# Altium schematic symbol library Schlib_For_High_Voltage_Sensor.SchLib: 142 symbols (part 1 of 3)
Pins are listed as number, name and electrical type; pins without a type are passive.

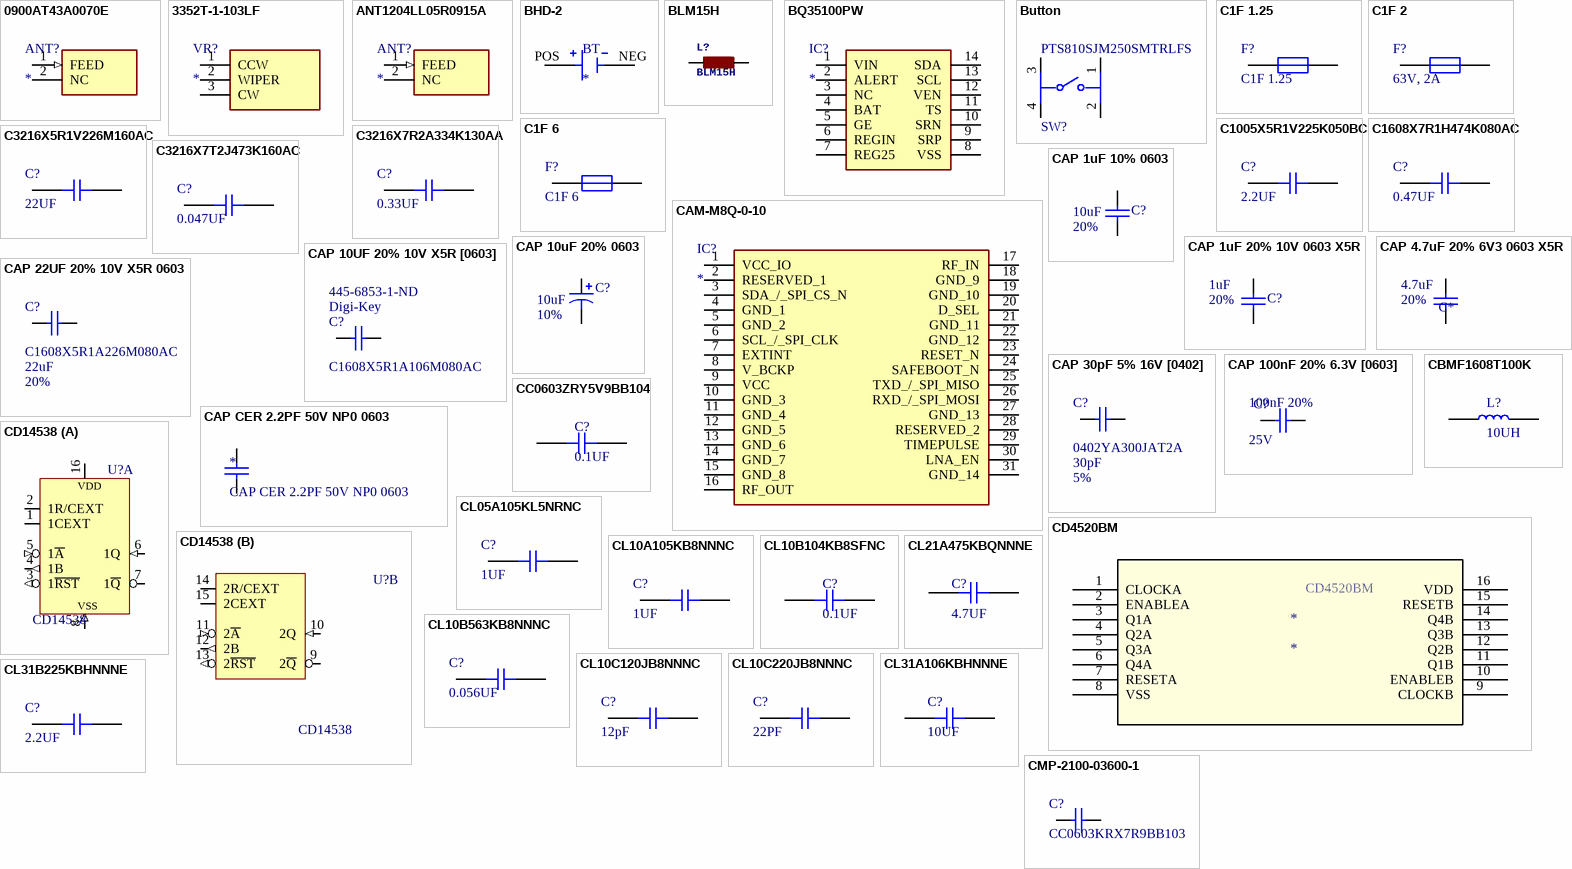
[diagram p0: symbols 0900AT43A0070E to CMP-2100-03600-1]

## 0900AT43A0070E
designator ANT?
Antenna; Manufacturer_Name: JOHANSON TECHNOLOGY; Manufacturer_Part_Number: 0900AT43A0070E; Datasheet Link: https://www.johansontechnology.com/datasheets/0900AT43A0070/0900AT43A0070.pdf; Height: 0.9mm
footprint ANTC7020X90N
pins: 1 FEED (in), 2 NC

## 3352T-1-103LF
designator VR?
Variable Resistor; Manufacturer_Name: Bourns; Manufacturer_Part_Number: 3352T-1-103LF; Datasheet Link: https://www.bourns.com/docs/Product-Datasheets/3352.pdf; Height: 5.33mm; Arrow Part Number: 3352T-1-103LF; Arrow Price/Stock: https://www.arrow.com/en/products/3352t-1-103lf/bourns; Mouser Part Number: 652-3352T-1-103LF; Mouser Price/Stock: https://www.mouser.co.uk/ProductDetail/Bourns/3352T-1-103LF?qs=EYTJzGwugUoW6t2SAeQ12A%3D%3D
footprint 3352T1103LF
pins: 1 CCW, 2 WIPER, 3 CW

## ANT1204LL05R0915A
designator ANT?
Antenna; Manufacturer_Name: YAGEO (PHYCOMP); Manufacturer_Part_Number: ANT1204LL05R0915A; Datasheet Link: http://www.yageo.com/documents/recent/An_Ceramic_915_1204_CHE_0.pdf; Height: 1.8mm; Arrow Part Number: ANT1204LL05R0915A; Arrow Price/Stock: https://www.arrow.com/en/products/ant1204ll05r0915a/yageo; Mouser Part Number: 603-ANT1204LL05R0915; Mouser Price/Stock: https://www.mouser.co.uk/ProductDetail/Yageo/ANT1204LL05R0915A?qs=CqAAFKzD4h%2FQqbyug0IFwg%3D%3D
footprint ANTC12141X180N
pins: 1 FEED (in), 2 NC

## BHD-2
designator BT
BATTERY HOLDER D PC PIN; MF: MPD; MP: BHD-2; Value: *; Package: None; Price: None; Availability: Bad; SnapEDA_Link: https://www.snapeda.com/parts/BHD-2/Memory%20Protection%20Devices/view-part/4219639/?ref=snap; BuyPart: https://www.snapeda.com/parts/BHD-2/Memory%20Protection%20Devices/view-part/4219639/?ref=eda
footprint BAT_BHD-2
pins: NEG, POS

## BLM15H
designator L?
EMIFIL (R) Chip Ferrite Bead for GHz Noise   Source: http://www.murata.com/ Ferrite Bead BLM15H.pdf; GateName_1: G$1; SymbolName_1: L; LibraryName: inductors; DeviceSetName: BLM15H
footprint 0402
pins: 1, 2

## BQ35100PW
designator IC?
Integrated Circuit; Manufacturer_Name: Texas Instruments; Manufacturer_Part_Number: BQ35100PW; Datasheet Link: http://www.ti.com/lit/gpn/bq35100; Height: 1.2mm; Arrow Part Number: BQ35100PW; Arrow Price/Stock: https://www.arrow.com/en/products/bq35100pw/texas-instruments; Mouser Part Number: 595-BQ35100PW; Mouser Price/Stock: https://www.mouser.co.uk/ProductDetail/Texas-Instruments/BQ35100PW?qs=Jwe3UnxISIaIuldqtot6tg%3D%3D
footprint SOP65P640X120-14N
pins: 1 VIN, 2 ALERT, 3 NC, 4 BAT, 5 GE, 6 REGIN, 7 REG25, 8 VSS, 9 SRP, 10 SRN, 11 TS, 12 VEN, 13 SCL, 14 SDA

## Button
designator SW?, comment PTS810SJM250SMTRLFS
SWITCH TACTILE SPST-NO 0.05A 16V; Manufacturer: C&K Components; Throw Configuration: SPST; Contact Resistance: 500mΩ; Electromechanical Life: 150000Cycles; Operating Force: 160gf; Contact Current Rating: 50mA; Temperature: -40°C to +85°C; Device Class L2: Switches; Digikey Description: SWITCH TACTILE SPST-NO 0.05A 16V; Automotive: No; Height: 2.7mm; ComponentLink2Description: Datasheet; Temperature Range Low: -40°C; Device Class L1: Electromechanical; Mouser Description: Switch Tactile N.O. SPST Button J-Bend 0.05A 16VDC 150000Cycles 1.57N SMD T/R; Octopart: https://octopart.com/pts810+sjm+250+smtr+lfs-c%26k+components-29687929; Lead Free: Yes; Voltage Rating Dc: 16V; Temperature Range High: +85°C; Package: PTS810SJM250SMTRLFS; Manufacturer Part Number: PTS810SJM250SMTRLFS; ComponentLink2URL: https://www.ckswitches.com/media/1476/pts810.pdf; Category: Switch; RoHS: TRUE; Device Class L3: Tactile Switches
footprint FP-PTS810SJM250SMTRLFS-MFG
footprint FP-PTS810SJM250SMTRLFS-MFG
pins: 1, 2, 3, 4

## C1F 1.25
designator F?
FUSE 1.25A 125VAC FAST 1206; Manufacturer: Bel Fuse Inc.; Fuse Type: Board Mount (Cartridge Style Excluded); Voltage Rating - AC: 125V; Voltage Rating - DC: 63V; Breaking Capacity @ Rated Voltage: 100A AC, 50A DC; Melting I²t: 0.023; Approvals: cURus; Supplier 1: Digi-Key; Manufacturer Part Number: C1F 1.25; RoHS: RoHS Compliant; Category: Circuit Protection; Stock 1: 14325; Pricing 1: 1=0.42, 5=0.404, 10=0.385, 50=0.3438, 100=0.3201, 250=0.28456, 500=0.23712, 1000=0.22527 (CAD); Packaging: Cut Tape (CT); Part Status: Active; Current Rating: 1.25A; Response Time: Fast; Package / Case: 1206 (3216 Metric); Mounting Type: Surface Mount; Operating Temperature: -55°C ~ 125°C; Color: -; Size / Dimension: 0.126" L x 0.062" W (3.20mm x 1.58mm); ComponentLink1URL: https://belfuse.com/resources/StewartConnector/C1F.pdf; ComponentLink1Description: https://belfuse.com/resources/StewartConnector/C1F.pdf; Supplier Part Number 1: 507-1879-1-ND
footprint RESC1206 (Chip Resistor 1206, 2-Leads, Body 3.20x1.60mm, IPC High Density)
pins: 1, 2

## C1F 2
designator F?, comment 63V, 2A
FUSE 2.0A 125VAC FAST 1206; Manufacturer: Bel Fuse Inc.; Manufacturer Part Number: C1F 2; Fuse Type: Board Mount (Cartridge Style Excluded); Voltage Rating - AC: 125V; Breaking Capacity @ Rated Voltage: 100A AC, 50A DC; Melting I²t: 0.085; Approvals: cURus; Supplier 1: Digi-Key; RoHS: RoHS Compliant; Category: Circuit Protection; Stock 1: 7503; Pricing 1: 1=0.43, 5=0.408, 10=0.39, 50=0.3478, 100=0.3238, 250=0.28788, 500=0.2399, 1000=0.2279 (CAD); Packaging: Cut Tape (CT); Part Status: Active; Current Rating: 2A; Voltage Rating - DC: 63V; Response Time: Fast; Package / Case: 1206 (3216 Metric); Mounting Type: Surface Mount; Operating Temperature: -55°C ~ 125°C; Color: -; Size / Dimension: 0.126" L x 0.062" W (3.20mm x 1.58mm); ComponentLink1URL: http://belfuse.com/pdfs/C1F.pdf; ComponentLink1Description: http://belfuse.com/pdfs/C1F.pdf; Supplier Part Number 1: 507-1881-1-ND
footprint RESC1206 (Chip Resistor 1206, 2-Leads, Body 3.20x1.60mm, IPC High Density)
pins: 1, 2

## C1F 6
designator F?
FUSE 6.0A 125VAC FAST 1206; Manufacturer: Bel Fuse Inc.; Fuse Type: Board Mount (Cartridge Style Excluded); Current Rating: 6A; Voltage Rating - AC: 125V; Voltage Rating - DC: 63V; Breaking Capacity @ Rated Voltage: 100A AC, 50A DC; Melting I²t: 1.404; Approvals: cURus; Supplier 1: Digi-Key; Manufacturer Part Number: C1F 6; RoHS: RoHS Compliant; Category: Circuit Protection; Stock 1: 32858; Pricing 1: 1=0.42, 5=0.404, 10=0.385, 50=0.3438, 100=0.3201, 250=0.28456, 500=0.23712, 1000=0.22527 (CAD); Packaging: Cut Tape (CT); Part Status: Active; Response Time: Fast; Package / Case: 1206 (3216 Metric); Mounting Type: Surface Mount; Operating Temperature: -55°C ~ 125°C; Color: -; Size / Dimension: 0.126" L x 0.062" W (3.20mm x 1.58mm); ComponentLink1URL: https://belfuse.com/resources/StewartConnector/C1F.pdf; ComponentLink1Description: https://belfuse.com/resources/StewartConnector/C1F.pdf; Supplier Part Number 1: 507-1887-1-ND
footprint RESC1206 (Chip Resistor 1206, 2-Leads, Body 3.20x1.60mm, IPC High Density)
pins: 1, 2

## C1005X5R1V225K050BC
designator C?, comment 2.2UF
CAP CER 2.2UF 35V X5R 0402; Manufacturer: TDK Corporation; Manufacturer Part Number: C1005X5R1V225K050BC; Tolerance: ±10%; Supplier 1: Digi-Key; RoHS: RoHS Compliant; Category: Capacitors; Stock 1: 300269; Pricing 1: 1=0.49, 10=0.342, 100=0.2052, 500=0.15388, 1000=0.12994, 2500=0.1231, 5000=0.11626 (CAD); Packaging: Cut Tape (CT); Part Status: Active; Voltage - Rated: 35V; Temperature Coefficient: X5R; Operating Temperature: -55°C ~ 85°C; Features: Low ESL; Ratings: -; Applications: General Purpose; Failure Rate: -; Mounting Type: Surface Mount, MLCC; Package / Case: 0402 (1005 Metric); Size / Dimension: 0.039" L x 0.020" W (1.00mm x 0.50mm); Height - Seated (Max): -; Thickness (Max): 0.022" (0.55mm); Lead Spacing: -; Lead Style: -; ComponentLink1URL: https://product.tdk.com/info/en/catalog/datasheets/mlcc_commercial_general_en.pdf; ComponentLink1Description: https://product.tdk.com/info/en/catalog/datasheets/mlcc_commercial_general_en.pdf; Supplier Part Number 1: 445-9028-1-ND
footprint CAPC0402 (Chip Capacitor 0402, 2-Leads, Body 1.00x0.50mm, IPC High Density)
pins: 1, 2

## C1608X7R1H474K080AC
designator C?, comment 0.47UF
CAP CER 0.47UF 50V X7R 0603; Manufacturer: TDK Corporation; Manufacturer Part Number: C1608X7R1H474K080AC; Capacitance: 0.47µF; Tolerance: ±10%; Supplier 1: Digi-Key; RoHS: RoHS Compliant; Category: Capacitors; Stock 1: 495910; Pricing 1: 1=0.38, 10=0.266, 100=0.1508, 500=0.10652, 1000=0.09318 (CAD); Packaging: Cut Tape (CT); Part Status: Active; Voltage - Rated: 50V; Temperature Coefficient: X7R; Operating Temperature: -55°C ~ 125°C; Features: Low ESL; Ratings: -; Applications: General Purpose; Failure Rate: -; Mounting Type: Surface Mount, MLCC; Package / Case: 0603 (1608 Metric); Size / Dimension: 0.063" L x 0.031" W (1.60mm x 0.80mm); Height - Seated (Max): -; Thickness (Max): 0.037" (0.95mm); Lead Spacing: -; Lead Style: -; ComponentLink1URL: https://product.tdk.com/info/en/catalog/datasheets/mlcc_commercial_general_en.pdf; ComponentLink1Description: https://product.tdk.com/info/en/catalog/datasheets/mlcc_commercial_general_en.pdf; Supplier Part Number 1: 445-5952-1-ND
footprint CAPC0603 (Chip Capacitor 0603, 2-Leads, Body 1.60x0.80mm, IPC High Density)
pins: 1, 2

## C3216X5R1V226M160AC
designator C?, comment 22UF
CAP CER 22UF 35V X5R 1206; Manufacturer: TDK; Manufacturer Part Number: C3216X5R1V226M160AC; Dielectric Material: Ceramic; Tolerance: 20%; Supplier 1: Digi-Key; Stock 1: 855987; Pricing 1: 1=1.11, 10=0.873, 100=0.6546, 500=0.49462, 1000=0.43643 (USD); Mount: Surface Mount; Case/Package: 1206; Weight: 0.000571oz; Case Code (Metric): 3216; Case Code (Imperial): 1206; Min Operating Temperature: -55°C; Max Operating Temperature: 85°C; Capacitance: 22uF; Package Quantity: 2000; Voltage Rating: 35V; Packaging: Tape and Reel; Voltage Rating (DC): 35V; Dielectric: X5R; Termination: SMD/SMT; Composition: Ceramic; Voltage: 35V; Length: 3.2mm; Height: 1.6mm; Width: 0.063inch; Depth: 1.6mm; Thickness: 1.6mm; Radiation Hardening: No; REACH SVHC: No SVHC; Lead Free: Lead Free; ComponentLink1URL: https://datasheet.ciiva.com/23803/1796654-23803046.pdf; ComponentLink1Description: https://datasheet.ciiva.com/23803/1796654-23803046.pdf; ComponentLink2URL: https://datasheet.ciiva.com/22725/1913358-22725591.pdf; ComponentLink2Description: https://datasheet.ciiva.com/22725/1913358-22725591.pdf; ComponentLink3URL: https://datasheet.ciiva.com/22725/1913358-22725592.pdf; ComponentLink3Description: https://datasheet.ciiva.com/22725/1913358-22725592.pdf; ComponentLink4URL: https://datasheet.ciiva.com/24216/c3216x5r1v226m160ac-265035-24216573.pdf; ComponentLink4Description: https://datasheet.ciiva.com/24216/c3216x5r1v226m160ac-265035-24216573.pdf; ComponentLink5URL: https://datasheet.ciiva.com/6259/tdkmlcccaprange-6259231.pdf; ComponentLink5Description: https://datasheet.ciiva.com/6259/tdkmlcccaprange-6259231.pdf; Supplier Part Number 1: 445-8045-1-ND
footprint CAPC1206 (Chip Capacitor 1206, 2-Leads, Body 3.20x1.60mm, IPC High Density)
pins: 1, 2

## C3216X7R2A334K130AA
designator C?, comment 0.33UF
CAP CER 0.33UF 100V X7R 1206; Manufacturer: TDK; Manufacturer Part Number: C3216X7R2A334K130AA; Capacitance: 330nF; Tolerance: 10%; Supplier 1: Digi-Key; Stock 1: 12384; Pricing 1: 1=0.62, 10=0.431, 100=0.2588, 500=0.19406, 1000=0.16388 (USD); Mount: Surface Mount; Case/Package: 1206; Weight: 0.000571oz; Case Code (Metric): 3216; Case Code (Imperial): 1206; Min Operating Temperature: -55°C; Max Operating Temperature: 125°C; Package Quantity: 1; Voltage Rating: 100V; Packaging: Tape and Reel; Voltage Rating (DC): 100V; Dielectric: X7R; Termination: SMD/SMT; Composition: Ceramic; Voltage: 100V; Length: 3.2mm; Height: 1.3mm; Width: 0.063inch; Thickness: 0.057inch; Depth: 1.6mm; REACH SVHC: No SVHC; Lead Free: Lead Free; ComponentLink1URL: https://datasheet.ciiva.com/24217/c3216x7r2a334k130aa-265144-24217268.pdf; ComponentLink1Description: https://datasheet.ciiva.com/24217/c3216x7r2a334k130aa-265144-24217268.pdf; ComponentLink2URL: https://datasheet.ciiva.com/11788/0900766b80fc5cba-11788187.pdf; ComponentLink2Description: https://datasheet.ciiva.com/11788/0900766b80fc5cba-11788187.pdf; Supplier Part Number 1: 445-4464-1-ND
footprint CAPC1206 (Chip Capacitor 1206, 2-Leads, Body 3.20x1.60mm, IPC High Density)
pins: 1, 2

## C3216X7T2J473K160AC
designator C?, comment 0.047UF
CAP CER 0.047UF 630V X7T 1206; Manufacturer: TDK Corporation; Manufacturer Part Number: C3216X7T2J473K160AC; Tolerance: ±10%; Supplier 1: Digi-Key; RoHS: RoHS Compliant; Category: Capacitors; Stock 1: 24407; Pricing 1: 1=0.74, 10=0.51, 100=0.3056, 500=0.22922, 1000=0.19355 (CAD); Packaging: Cut Tape (CT); Part Status: Active; Voltage - Rated: 630V; Temperature Coefficient: X7T; Operating Temperature: -55°C ~ 125°C; Features: -; Ratings: -; Applications: General Purpose; Failure Rate: -; Mounting Type: Surface Mount, MLCC; Package / Case: 1206 (3216 Metric); Size / Dimension: 0.126" L x 0.063" W (3.20mm x 1.60mm); Height - Seated (Max): -; Thickness (Max): 0.075" (1.90mm); Lead Spacing: -; Lead Style: -; ComponentLink1URL: https://product.tdk.com/info/en/catalog/datasheets/mlcc_commercial_midvoltage_en.pdf; ComponentLink1Description: https://product.tdk.com/info/en/catalog/datasheets/mlcc_commercial_midvoltage_en.pdf; Supplier Part Number 1: 445-7763-1-ND
footprint CAPC1206 (Chip Capacitor 1206, 2-Leads, Body 3.20x1.60mm, IPC High Density)
pins: 1, 2

## CAM-M8Q-0-10
designator IC?
Integrated Circuit; Manufacturer_Name: U-Blox; Manufacturer_Part_Number: CAM-M8Q-0-10; Datasheet Link: https://www.u-blox.com/sites/default/files/CAM-M8-FW3_DataSheet_%28UBX-15031574%29.pdf
footprint CAM-M8Q
pins: 1 VCC_IO, 2 RESERVED_1, 3 SDA_/_SPI_CS_N, 4 GND_1, 5 GND_2, 6 SCL_/_SPI_CLK, 7 EXTINT, 8 V_BCKP, 9 VCC, 10 GND_3, 11 GND_4, 12 GND_5, 13 GND_6, 14 GND_7, 15 GND_8, 16 RF_OUT, 17 RF_IN, 18 GND_9, 19 GND_10, 20 D_SEL, 21 GND_11, 22 GND_12, 23 RESET_N, 24 SAFEBOOT_N, 25 TXD_/_SPI_MISO, 26 RXD_/_SPI_MOSI, 27 GND_13, 28 RESERVED_2, 29 TIMEPULSE, 30 LNA_EN, 31 GND_14

## CAP 1uF 10% 0603
designator C?, comment value 10uF  Tolerance: 20%  (hidden comment: CAP 10uF 20% 10V 0603 X5R)
Supplier 1: Newark; Supplier Part Number 1: 87R3602
footprint CAPC0603 (Chip Capacitor 0603, 2-Leads, Body 1.60x0.80mm, IPC High Density)
pins: 1, 2

## CAP 1uF 20% 10V 0603 X5R
designator C?, comment value 1uF  Tolerance: 20%  (hidden comment: CAP 1uF 20% 16V 0603 X7R)
Supplier 1: Digi-Key; Supplier Part Number 1: 445-5131-1-ND
footprint CAPC0603 (Chip Capacitor 0603, 2-Leads, Body 1.60x0.80mm, IPC High Density)
pins: 1, 2

## CAP 4.7uF 20% 6V3 0603 X5R
designator C*  value 4.7uF  Tolerance: 20%  (hidden comment: CAP 4.7uF 20% 6V3 0603 X5R)
Supplier 1: Digi-Key; Supplier Part Number 1: 399-7936-1-ND
footprint CAPC0603 (Chip Capacitor 0603, 2-Leads, Body 1.60x0.80mm, IPC High Density)
pins: 1, 2

## CAP 10UF 20% 10V X5R [0603]
designator C?, comment Supplier 1: Digi-Key  Supplier Part Number 1: 445-6853-1-ND  PN: C1608X5R1A106M080AC  (hidden comment: CAP 10UF 20% 10V X5R 0603)
Datasheet: https://product.tdk.com/info/en/catalog/datasheets/mlcc_commercial_general_en.pdf?ref_disty=digikey
footprint CAP 0603
footprint CAPC0603 (Chip Capacitor 0603, 2-Leads, Body 1.60x0.80mm, IPC High Density)
pins: 1, 2

## CAP 10uF 20% 0603
designator C?, comment value 10uF  Tolerance: 10%  (hidden comment: CAP 10uF 10% 10V TAN)
Supplier 1: Digi-Key; Supplier Part Number 1: 478-1654-1-ND
footprint CAP POL 1206
footprint CAPC0603 (Chip Capacitor 0603, 2-Leads, Body 1.60x0.80mm, IPC High Density)
pins: 1, 2

## CAP 22UF 20% 10V X5R 0603
designator C?, comment value 22uF  PN: C1608X5R1A226M080AC  Tolerance: 20%  (hidden comment: Cap)
CAP 22UF 20% 10V X5R 0603; Datasheet: https://product.tdk.com/info/en/catalog/datasheets/mlcc_commercial_general_en.pdf?ref_disty=digikey; Supplier 1: Digi-Key; Supplier Part Number 1: 445-9077-1-ND
footprint CAP 0603
footprint CAPC0603 (Chip Capacitor 0603, 2-Leads, Body 1.60x0.80mm, IPC High Density)
pins: 1, 2

## CAP 30pF 5% 16V [0402]
designator C?  value 30pF  PN: 0402YA300JAT2A  Tolerance: 5%  (hidden comment: CAP 30pF 5% 16V [0402])
Datasheet: https://www.mouser.ca/datasheet/2/40/C0GNP0-Dielectric-951274.pdf; Supplier 1: Mouser; Supplier Part Number 1: 581-0402YA300JAT2A
footprint CAP [0402]
footprint CAPC0402 (Chip Capacitor 0402, 2-Leads, Body 1.00x0.50mm, IPC High Density)
pins: 1, 2

## CAP 100nF 20% 6.3V [0603]
designator C?, comment value 100nF  Tolerance: 20%  Voltage: 25V  (hidden comment: CAP 100nF 20% 10V [0603] X7R)
Supplier 1: Digi-Key; Supplier Part Number 1: 478-5049-1-ND; Temperature Coeff.: X7R
footprint CAP 0603
footprint CAPC0603 (Chip Capacitor 0603, 2-Leads, Body 1.60x0.80mm, IPC High Density)
pins: 1, 2

## CAP CER 2.2PF 50V NP0 0603
designator *
footprint CAPC0603 (Chip Capacitor 0603, 2-Leads, Body 1.60x0.80mm, IPC High Density)
pins: 1, 2

## CBMF1608T100K
designator L?, comment 10UH
FIXED IND 10UH 380MA 468 MOHM; Manufacturer: Taiyo Yuden; Manufacturer Part Number: CBMF1608T100K; Type: Wirewound; Material - Core: Ferrite; Tolerance: ±10%; Shielding: Unshielded; DC Resistance (DCR): 468 mOhm Max; Supplier 1: Digi-Key; RoHS: RoHS Compliant; Category: Inductors, Coils, Chokes; Stock 1: 194311; Pricing 1: 1=0.35, 10=0.305, 100=0.2094, 500=0.17892, 1000=0.13704 (CAD); Packaging: Cut Tape (CT); Part Status: Active; Q @ Freq: -; Ratings: -; Operating Temperature: -40°C ~ 105°C; Mounting Type: Surface Mount; Package / Case: 0603 (1608 Metric); Supplier Device Package: 0603 (1608 Metric); Size / Dimension: 0.063" L x 0.032" W (1.60mm x 0.80mm); Height - Seated (Max): 0.039" (1.00mm); ComponentLink1URL: http://ds.yuden.co.jp/TYCOMPAS/ut/detail.do?productNo=CBMF1608T100K&fileName=CBMF1608T100K_SS&mode=specSheetDownload; ComponentLink1Description: http://ds.yuden.co.jp/TYCOMPAS/ut/detail.do?productNo=CBMF1608T100K&fileName=CBMF1608T100K_SS&mode=specSheetDownload; Supplier Part Number 1: 587-1720-1-ND
footprint RESC0603 (Chip Resistor 0603, 2-Leads, Body 1.60x0.82mm, IPC High Density)
pins: 1, 2

## CC0603ZRY5V9BB104
designator C?, comment 0.1UF
CAP CER 0.1UF 50V Y5V 0603; Manufacturer 1: Yageo; Manufacturer Part Number 1: CC0603ZRY5V9BB104; Capacitance: 100nF; Tolerance: 80%; Supplier 1: Digi-Key; Supplier Part Number 1: 311-1343-1-ND; Description 1: CAP CER 0.1UF 50V Y5V 0603; Stock 1: 40000; Pricing 1: 1=0.1, 10=0.062, 100=0.0275, 500=0.01962, 1000=0.01541 (USD); Mount: Surface Mount; Case/Package: 0603; Number of Pins: 2; Case Code (Metric): 1608; Case Code (Imperial): 0603; Min Operating Temperature: -30°C; Max Operating Temperature: 85°C; Voltage Rating: 50V; Package Quantity: 1; Packaging: Tape and Reel; Voltage Rating (DC): 50V; Dielectric: Y5V; Termination: SMD/SMT; Composition: Ceramic; Voltage: 50V; Length: 1.6mm; Height: 0.8mm; Width: 0.031inch; Thickness: 0.035inch; Depth: 0.8mm; Radiation Hardening: No; REACH SVHC: No SVHC; Lead Free: Lead Free; Halogen Free: Halogen Free; ComponentLink1URL: https://datasheet.ciiva.com/144/mlccorderingcode-144025.pdf; ComponentLink1Description: https://datasheet.ciiva.com/144/mlccorderingcode-144025.pdf; ComponentLink2URL: https://datasheet.ciiva.com/144/mlccorderingcode-144026.pdf; ComponentLink2Description: https://datasheet.ciiva.com/144/mlccorderingcode-144026.pdf; ComponentLink3URL: https://datasheet.ciiva.com/144/mlccorderingcode-144027.pdf; ComponentLink3Description: https://datasheet.ciiva.com/144/mlccorderingcode-144027.pdf; ComponentLink4URL: https://datasheet.ciiva.com/17434/upy-gphc-y5v-6-3v-to-50v-5-17434523.pdf; ComponentLink4Description: https://datasheet.ciiva.com/17434/upy-gphc-y5v-6-3v-to-50v-5-17434523.pdf; ComponentLink5URL: https://datasheet.ciiva.com/26829/getdatasheetpartid-403611-26829467.pdf; ComponentLink5Description: https://datasheet.ciiva.com/26829/getdatasheetpartid-403611-26829467.pdf; ComponentLink6URL: https://datasheet.ciiva.com/5427/upy-gphc-y5v-6-3v-to-50v-5-5427420.pdf; ComponentLink6Description: https://datasheet.ciiva.com/5427/upy-gphc-y5v-6-3v-to-50v-5-5427420.pdf; ComponentLink7URL: https://datasheet.ciiva.com/11786/0900766b8079c870-11786029.pdf; ComponentLink7Description: https://datasheet.ciiva.com/11786/0900766b8079c870-11786029.pdf; ComponentLink8URL: https://datasheet.ciiva.com/28450/1132289-28450702.pdf; ComponentLink8Description: https://datasheet.ciiva.com/28450/1132289-28450702.pdf
footprint CAPC0603 (Chip Capacitor 0603, 2-Leads, Body 1.60x0.80mm, IPC High Density)
pins: 1, 2

## CD4520BM
designator *  Manufacturer Part Number: CD4520BM
Counter ICs CMOS Dual Binary Up- Counter; Manufacturer: Texas Instruments; Number of Elements: 2; Direction: Up,Unidirectional; Number of Bits: 4; Min Supply Voltage: 3V; Max Supply Voltage: 18V; Propagation Delay: 650ns; Reset: Asynchronous; Frequency: 8MHz; Quiescent Current: 100uA; High Level Output Current: -10mA; Low Level Output Current: 50mA; Power Dissipation: 740mW; Number of Timers/Counters: 1; Operating Supply Current: 50uA; Output Current: 100mA; Max Frequency: 3MHz; Sync/Async: Synchronous; Supplier 1: Digi-Key; Stock 1: 77; Pricing 1: 1=0.56000, 10=0.47600, 25=0.44440, 100=0.35560, 250=0.33020, 500=0.27940, 1000=0.21590, 2500=0.19685, 5000=0.18415 (USD); RoHS: Yes; Mount: Surface Mount; Case/Package: SOIC; Number of Pins: 16; Weight: 0.004998oz; Contact Plating: Gold; Min Operating Temperature: -55°C; Max Operating Temperature: 125°C; Logic Function: Counter; Packaging: Rail/Tube; Number of Bits per Element: 4; Package Quantity: 40; Turn-On Delay Time: 650ns; Length: 10mm; Height: 1.5mm; Width: 4mm; Radiation Hardening: No; Lead Free: Lead Free; REACH SVHC: No SVHC; ComponentLink1URL: https://datasheet.ciiva.com/15093/getdatasheetpartid-293403-15093688.pdf?src-supplier=Verical; ComponentLink1Description: https://datasheet.ciiva.com/15093/getdatasheetpartid-293403-15093688.pdf?src-supplier=Verical; ComponentLink2URL: https://datasheet.ciiva.com/1506/1862404-1506704.pdf?src-supplier=Element14; ComponentLink2Description: https://datasheet.ciiva.com/1506/1862404-1506704.pdf?src-supplier=Element14; ComponentLink3URL: https://datasheet.ciiva.com/6623/cd4520b-6623849.pdf?src-supplier=Digi-Key; ComponentLink3Description: https://datasheet.ciiva.com/6623/cd4520b-6623849.pdf?src-supplier=Digi-Key; ComponentLink4URL: https://datasheet.ciiva.com/14295/cd4520b-mil-14295930.pdf?src-supplier=Avnet; ComponentLink4Description: https://datasheet.ciiva.com/14295/cd4520b-mil-14295930.pdf?src-supplier=Avnet; ComponentLink5URL: https://datasheet.ciiva.com/41455/001015562-da-01-en-ic-dual-bin-up-coun-cd4520bm-soic-16-tid-41455477.pdf?src-supplier=Conrad; ComponentLink5Description: https://datasheet.ciiva.com/41455/001015562-da-01-en-ic-dual-bin-up-coun-cd4520bm-soic-16-tid-41455477.pdf?src-supplier=Conrad; Stock 2: 41334; Pricing 2: 1=1.08000, 10=0.96200, 25=0.91280, 100=0.74980, 250=0.70092, 500=0.61940, 1000=0.48900 (USD); Max Power Dissipation: 740mW; ComponentLink6URL: https://datasheet.ciiva.com/46451/903251-46451574.pdf?src-supplier=Jameco; ComponentLink6Description: https://datasheet.ciiva.com/46451/903251-46451574.pdf?src-supplier=Jameco; ComponentLink7URL: https://datasheet.ciiva.com/49050/getdatasheetpartid-627733-49050182.pdf?src-supplier=Verical; ComponentLink7Description: https://datasheet.ciiva.com/49050/getdatasheetpartid-627733-49050182.pdf?src-supplier=Verical; ComponentLink8URL: https://datasheet.ciiva.com/46384/1888913-46384604.pdf?src-supplier=Element14; ComponentLink8Description: https://datasheet.ciiva.com/46384/1888913-46384604.pdf?src-supplier=Element14; ComponentLink9URL: https://datasheet.ciiva.com/49046/1902741-49046076.pdf?src-supplier=Element14; ComponentLink9Description: https://datasheet.ciiva.com/49046/1902741-49046076.pdf?src-supplier=Element14; ComponentLink10URL: https://datasheet.ciiva.com/46382/1882663-46382141.pdf?src-supplier=Element14; ComponentLink10Description: https://datasheet.ciiva.com/46382/1882663-46382141.pdf?src-supplier=Element14; Supplier Part Number 1: 296-32927-5-ND; Supplier 2: Digi-Key; Supplier Part Number 2: LMC555CMX/NOPBDKR-ND
footprint SOIC127P600X175-16N
pins: 1 CLOCKA, 2 ENABLEA, 3 Q1A, 4 Q2A, 5 Q3A, 6 Q4A, 7 RESETA, 8 VSS (power), 9 CLOCKB, 10 ENABLEB, 11 Q1B, 12 Q2B, 13 Q3B, 14 Q4B, 15 RESETB, 16 VDD (power)

## CD14538
designator U?
CD14538 DUAL PRECISION MONOSTABLE MULTIVIBRATOR; Part Field 1: DigiKey; Part Field 2: 1727-3553-ND
footprint SO16
footprint D16
part A pins: 1 1CEXT, 2 1R/CEXT, 3 1~{RST} (out), 4 1B (out), 5 1~{A} (in), 6 1Q (in), 7 1~{Q} (io), 8 VSS (in), 16 VDD (power)
part B pins: 9 2~{Q} (io), 10 2Q (in), 11 2~{A} (in), 12 2B (out), 13 2~{RST} (out), 14 2R/CEXT, 15 2CEXT

## CL05A105KL5NRNC
designator C?, comment 1UF
CAP CER 1UF 35V X5R 0402; Manufacturer: Samsung Electro-Mechanics America, Inc.; Manufacturer Part Number: CL05A105KL5NRNC; Tolerance: ±10%; Supplier 1: Digi-Key; RoHS: RoHS Compliant; Category: Capacitors; Stock 1: 19137; Pricing 1: 1=0.38, 10=0.255, 100=0.1292, 500=0.08844, 1000=0.07824, 2500=0.07483, 5000=0.06803 (CAD); Packaging: Cut Tape (CT); Part Status: Active; Voltage - Rated: 35V; Temperature Coefficient: X5R; Operating Temperature: -55°C ~ 85°C; Features: -; Ratings: -; Applications: General Purpose; Mounting Type: Surface Mount, MLCC; Package / Case: 0402 (1005 Metric); Size / Dimension: 0.039" L x 0.020" W (1.00mm x 0.50mm); Height - Seated (Max): -; Thickness (Max): 0.022" (0.55mm); Lead Spacing: -; Lead Style: -; ComponentLink1URL: http://www.samsungsem.com/kr/support/library/product-catalog/mlcc.jsp; ComponentLink1Description: http://www.samsungsem.com/kr/support/library/product-catalog/mlcc.jsp; Supplier Part Number 1: 1276-6796-1-ND
footprint CAPC0402 (Chip Capacitor 0402, 2-Leads, Body 1.00x0.50mm, IPC High Density)
pins: 1, 2

## CL10A105KB8NNNC
designator C?, comment 1UF
CAP CER 1UF 50V X5R 0603; Manufacturer: Samsung Electro-Mechanics America, Inc.; Manufacturer Part Number: CL10A105KB8NNNC; Capacitance: 1µF; Tolerance: ±10%; Supplier 1: Digi-Key; RoHS: RoHS Compliant; Category: Capacitors; Stock 1: 413709; Pricing 1: 1=0.22, 10=0.155, 100=0.0729, 500=0.05118, 1000=0.04237 (CAD); Packaging: Cut Tape (CT); Part Status: Active; Voltage - Rated: 50V; Temperature Coefficient: X5R; Operating Temperature: -55°C ~ 85°C; Features: -; Ratings: -; Applications: General Purpose; Mounting Type: Surface Mount, MLCC; Package / Case: 0603 (1608 Metric); Size / Dimension: 0.063" L x 0.031" W (1.60mm x 0.80mm); Height - Seated (Max): -; Thickness (Max): 0.035" (0.90mm); Lead Spacing: -; Lead Style: -; ComponentLink1URL: http://www.samsungsem.com/kr/support/product-search/mlcc/CL10A105KB8NNNC.jsp; ComponentLink1Description: http://www.samsungsem.com/kr/support/product-search/mlcc/CL10A105KB8NNNC.jsp; Supplier Part Number 1: 1276-1860-1-ND
footprint CAPC0603 (Chip Capacitor 0603, 2-Leads, Body 1.60x0.80mm, IPC High Density)
pins: 1, 2

## CL10B104KB8SFNC
designator C?, comment 0.1UF
CAP CER 0.1UF 50V X7R 0603; Manufacturer: Samsung Electro-Mechanics America, Inc.; Manufacturer Part Number: CL10B104KB8SFNC; Capacitance: 0.1µF; Tolerance: ±10%; Supplier 1: Digi-Key; RoHS: RoHS Compliant; Category: Capacitors; Stock 1: 2171366; Pricing 1: 1=0.14, 10=0.036, 25=0.026, 50=0.0196, 100=0.016, 250=0.0134, 500=0.01142, 1000=0.00897 (CAD); Packaging: Cut Tape (CT); Part Status: Active; Voltage - Rated: 50V; Temperature Coefficient: X7R; Operating Temperature: -55°C ~ 125°C; Features: Soft Termination; Ratings: -; Applications: Boardflex Sensitive; Mounting Type: Surface Mount, MLCC; Package / Case: 0603 (1608 Metric); Size / Dimension: 0.063" L x 0.031" W (1.60mm x 0.80mm); Height - Seated (Max): -; Thickness (Max): 0.035" (0.90mm); Lead Spacing: -; Lead Style: -; ComponentLink1URL: http://www.samsungsem.com/kr/support/product-search/mlcc/CL10B104KB8SFNC.jsp; ComponentLink1Description: http://www.samsungsem.com/kr/support/product-search/mlcc/CL10B104KB8SFNC.jsp; Supplier Part Number 1: 1276-1936-1-ND
footprint CAPC0603 (Chip Capacitor 0603, 2-Leads, Body 1.60x0.80mm, IPC High Density)
pins: 1, 2

## CL10B563KB8NNNC
designator C?, comment 0.056UF
CAP CER 0.056UF 50V X7R 0603; Manufacturer: Samsung Electro-Mechanics America, Inc.; Manufacturer Part Number: CL10B563KB8NNNC; Capacitance: 0.056µF; Tolerance: ±10%; Supplier 1: Digi-Key; RoHS: RoHS Compliant; Category: Capacitors; Stock 1: 5733; Pricing 1: 1=0.16, 10=0.115, 100=0.0538, 500=0.03772, 1000=0.03124 (CAD); Packaging: Cut Tape (CT); Part Status: Active; Voltage - Rated: 50V; Temperature Coefficient: X7R; Operating Temperature: -55°C ~ 125°C; Features: -; Ratings: -; Applications: General Purpose; Mounting Type: Surface Mount, MLCC; Package / Case: 0603 (1608 Metric); Size / Dimension: 0.063" L x 0.031" W (1.60mm x 0.80mm); Height - Seated (Max): -; Thickness (Max): 0.035" (0.90mm); Lead Spacing: -; Lead Style: -; ComponentLink1URL: http://media.digikey.com/pdf/Data%20Sheets/Samsung%20PDFs/CL_Series_MLCC_ds.pdf; ComponentLink1Description: http://media.digikey.com/pdf/Data%20Sheets/Samsung%20PDFs/CL_Series_MLCC_ds.pdf; Supplier Part Number 1: 1276-2096-1-ND
footprint CAPC0603 (Chip Capacitor 0603, 2-Leads, Body 1.60x0.80mm, IPC High Density)
pins: 1, 2

## CL10C120JB8NNNC
designator C?, comment 12pF
Cap Ceramic 12pF 50V C0G 5% SMD 0603 125C Paper T/R; Manufacturer: Samsung; Manufacturer Part Number: CL10C120JB8NNNC; Temperature Coefficient: 300ppm/°C; Supplier 1: Digi-Key; Stock 1: 101308; Pricing 1: 1=0.1, 10=0.032, 100=0.0143, 500=0.0102, 1000=0.008 (USD); Mount: Surface Mount; Case/Package: 0603; Case Code (Metric): 1608; Case Code (Imperial): 0603; Material: Ceramic; Contact Plating: Tin; Min Operating Temperature: -55°C; Max Operating Temperature: 125°C; Tolerance: 5%; Capacitance: 12pF; Dielectric: C0G; Voltage: 50V; Voltage Rating (DC): 50V; Voltage Rating: 50V; Package Quantity: 1; Packaging: Tape and Reel; Length: 1.6mm; Height: 0.8mm; Depth: 0.8mm; Width: 0.031inch; Thickness: 0.035inch; Radiation Hardening: No; Lead Free: Lead Free; ComponentLink1URL: https://datasheet.ciiva.com/25803/cl10c120jb8nnnc-25803312.pdf; ComponentLink1Description: https://datasheet.ciiva.com/25803/cl10c120jb8nnnc-25803312.pdf; ComponentLink2URL: https://datasheet.ciiva.com/26838/getdatasheetpartid-640658-26838491.pdf; ComponentLink2Description: https://datasheet.ciiva.com/26838/getdatasheetpartid-640658-26838491.pdf; ComponentLink3URL: https://datasheet.ciiva.com/29198/457317-da-01-en-vs-kondensator-0603-29198780.pdf; ComponentLink3Description: https://datasheet.ciiva.com/29198/457317-da-01-en-vs-kondensator-0603-29198780.pdf; Supplier Part Number 1: 1276-1254-6-ND
footprint CAPC0603 (Chip Capacitor 0603, 2-Leads, Body 1.60x0.80mm, IPC High Density)
pins: 1, 2

## CL10C220JB8NNNC
designator C?, comment 22PF
CAP CER 22PF 50V C0G/NP0 0603; Manufacturer: Samsung Electro-Mechanics America, Inc.; Manufacturer Part Number: CL10C220JB8NNNC; Tolerance: ±5%; Temperature Coefficient: C0G, NP0; Supplier 1: Digi-Key; RoHS: RoHS Compliant; Category: Capacitors; Stock 1: 111701; Pricing 1: 1=0.15, 10=0.044, 100=0.0193, 500=0.01378, 1000=0.01081 (CAD); Packaging: Cut Tape (CT); Part Status: Active; Capacitance: 22pF; Voltage - Rated: 50V; Operating Temperature: -55°C ~ 125°C; Features: -; Ratings: -; Applications: General Purpose; Mounting Type: Surface Mount, MLCC; Package / Case: 0603 (1608 Metric); Size / Dimension: 0.063" L x 0.031" W (1.60mm x 0.80mm); Height - Seated (Max): -; Thickness (Max): 0.035" (0.90mm); Lead Spacing: -; Lead Style: -; ComponentLink1URL: http://media.digikey.com/pdf/Data%20Sheets/Samsung%20PDFs/CL_Series_MLCC_ds.pdf; ComponentLink1Description: http://media.digikey.com/pdf/Data%20Sheets/Samsung%20PDFs/CL_Series_MLCC_ds.pdf; Supplier Part Number 1: 1276-1023-1-ND
footprint CAPC0603 (Chip Capacitor 0603, 2-Leads, Body 1.60x0.80mm, IPC High Density)
pins: 1, 2

## CL21A475KBQNNNE
designator C?, comment 4.7UF
Cap Ceramic 4.7uF 50V X5R 10% SMD 0805 85C Embossed T/R; Manufacturer: Samsung; Manufacturer Part Number: CL21A475KBQNNNE; Supplier 1: Digi-Key; Stock 1: 359698; Pricing 1: 1=0.41, 10=0.284, 100=0.1706, 500=0.12792, 1000=0.10803 (USD); Mount: Surface Mount; Case/Package: 0805; Case Code (Metric): 2012; Case Code (Imperial): 0805; Min Operating Temperature: -55°C; Max Operating Temperature: 85°C; Tolerance: 10%; Packaging: Tape and Reel; Package Quantity: 1; Capacitance: 4.7uF; Voltage Rating: 50V; Dielectric: X5R; Length: 2mm; Width: 0.049inch; Thickness: 0.055inch; Depth: 1.25mm; Radiation Hardening: No; ComponentLink1URL: https://datasheet.ciiva.com/25797/cl21a475kbqnnne-25797730.pdf; ComponentLink1Description: https://datasheet.ciiva.com/25797/cl21a475kbqnnne-25797730.pdf; ComponentLink2URL: https://datasheet.ciiva.com/26838/getdatasheetpartid-470982-26838620.pdf; ComponentLink2Description: https://datasheet.ciiva.com/26838/getdatasheetpartid-470982-26838620.pdf; ComponentLink3URL: https://datasheet.ciiva.com/16428/cl21a475kbqnnne-16428877.pdf; ComponentLink3Description: https://datasheet.ciiva.com/16428/cl21a475kbqnnne-16428877.pdf; Supplier Part Number 1: 1276-1248-1-ND
footprint CAPC0805 (Chip Capacitor 0805, 2-Leads, Body 2.00x1.25mm, IPC High Density)
pins: 1, 2

## CL31A106KBHNNNE
designator C?, comment 10UF
CAP CER 10UF 50V X5R 1206; Manufacturer: Samsung Electro-Mechanics America, Inc.; Manufacturer Part Number: CL31A106KBHNNNE; Capacitance: 10µF; Tolerance: ±10%; Supplier 1: Digi-Key; RoHS: RoHS Compliant; Category: Capacitors; Stock 1: 185663; Pricing 1: 1=0.82, 10=0.577, 25=0.4916, 50=0.4356, 100=0.3795, 250=0.32328, 500=0.28114, 1000=0.23895 (CAD); Packaging: Cut Tape (CT); Part Status: Active; Voltage - Rated: 50V; Temperature Coefficient: X5R; Operating Temperature: -55°C ~ 85°C; Features: -; Ratings: -; Applications: General Purpose; Mounting Type: Surface Mount, MLCC; Package / Case: 1206 (3216 Metric); Size / Dimension: 0.126" L x 0.063" W (3.20mm x 1.60mm); Height - Seated (Max): -; Thickness (Max): 0.071" (1.80mm); Lead Spacing: -; Lead Style: -; ComponentLink1URL: http://www.samsungsem.com/kr/support/product-search/mlcc/CL31A106KBHNNNE.jsp; ComponentLink1Description: http://www.samsungsem.com/kr/support/product-search/mlcc/CL31A106KBHNNNE.jsp; Supplier Part Number 1: 1276-2876-1-ND
footprint CAPC1206 (Chip Capacitor 1206, 2-Leads, Body 3.20x1.60mm, IPC High Density)
pins: 1, 2

## CL31B225KBHNNNE
designator C?, comment 2.2UF
CAP CER 2.2UF 50V X7R 1206; Manufacturer: Samsung Electro-Mechanics America, Inc.; Manufacturer Part Number: CL31B225KBHNNNE; Capacitance: 2.2µF; Tolerance: ±10%; Supplier 1: Digi-Key; RoHS: RoHS Compliant; Category: Capacitors; Stock 1: 137467; Pricing 1: 1=0.36, 10=0.251, 100=0.1276, 500=0.08726, 1000=0.0772 (CAD); Packaging: Cut Tape (CT); Part Status: Active; Voltage - Rated: 50V; Temperature Coefficient: X7R; Operating Temperature: -55°C ~ 125°C; Features: -; Ratings: -; Applications: General Purpose; Mounting Type: Surface Mount, MLCC; Package / Case: 1206 (3216 Metric); Size / Dimension: 0.126" L x 0.063" W (3.20mm x 1.60mm); Height - Seated (Max): -; Thickness (Max): 0.071" (1.80mm); Lead Spacing: -; Lead Style: -; ComponentLink1URL: http://media.digikey.com/pdf/Data%20Sheets/Samsung%20PDFs/CL_Series_MLCC_ds.pdf; ComponentLink1Description: http://media.digikey.com/pdf/Data%20Sheets/Samsung%20PDFs/CL_Series_MLCC_ds.pdf; Supplier Part Number 1: 1276-1291-1-ND
footprint CAPC1206 (Chip Capacitor 1206, 2-Leads, Body 3.20x1.60mm, IPC High Density)
pins: 1, 2

## CMP-2100-03600-1
designator C?, comment CC0603KRX7R9BB103
Chip Capacitor, 10 nF, +/- 10%, 50 V, -55 to 125 degC, 0603 (1608 Metric), RoHS, Tape and Reel; Manufacturer: Yageo; Insulation Resistance: 100GR; Dielectric: X7R; Voltage Rating (DC): 50V; Capacitance: 10nF; Material: Ceramic; Lead Free: LeadFree; Case/Package: 0603; Datasheet Version: Rev. 15, 10/2016; Composition: Ceramic; Radiation Hardening: No; Thickness: 0.035inch; RoHSCompliant: True; Termination: SMD/SMT; Manufacturer URL: http://www.yageo.com/; Tolerance: 10%; REACH SVHC: NoSVHC; Voltage: 50V; Max Operating Temperature: 125degC; Case Code (Metric): 1608; Package Quantity: 1; Case Code (Imperial): 0603; Packaging: TapeandReel; Package Reference: 0603; Width: 0.031inch; Datasheet URL: http://www.yageo.com/documents/recent/UPY-GPHC_X7R_6.3V-to-50V_15.pdf; Length: 1.6mm; Min Operating Temperature: -55degC; Number of Pins: 2; Depth: 0.8mm; Mount: SurfaceMount; Height: 0.8mm; Voltage Rating: 50V; Package Description: 2-Pin Surface Mount Device, Body 1.6 x 0.8 mm
footprint CAPC1608X90X40LL10T20 (Chip Capacitor, 2-Leads, Body 1.60x0.80mm, IPC High Density)
footprint CAPC1608X90X40NL10T20 (Chip Capacitor, 2-Leads, Body 1.60x0.80mm, IPC Medium Density)
footprint CAPC1608X90X40ML10T20 (Chip Capacitor, 2-Leads, Body 1.7x0.9mm, IPC Low Density)
pins: 1, 2

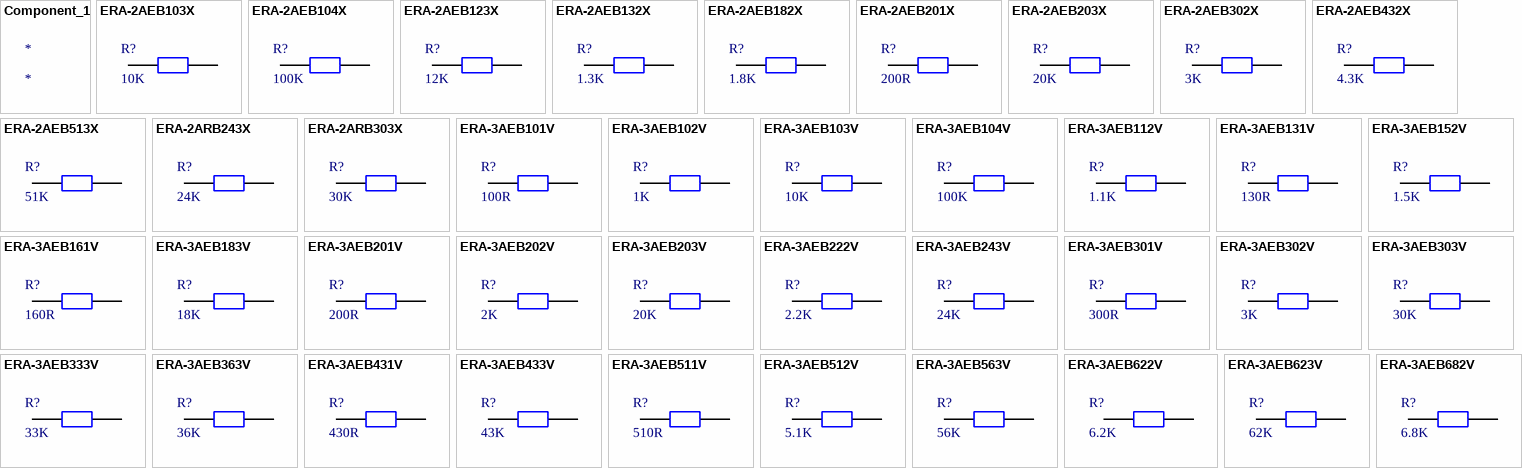
[diagram p1: symbols Component_1 to ERA-3AEB682V]

## Component_1
designator *

## ERA-2AEB103X
designator R?, comment 10K
RES SMD 10K OHM 0.1% 1/16W 0402; Manufacturer: Panasonic Electronic Components; Manufacturer Part Number: ERA-2AEB103X; Power (Watts): 0.063W, 1/16W; Temperature Coefficient: ±25ppm/°C; Supplier 1: Digi-Key; RoHS: RoHS Compliant; Category: Resistors; Stock 1: 799169; Pricing 1: 1=0.65, 10=0.462, 100=0.1847, 1000=0.09099, 2500=0.0843, 5000=0.07628 (CAD); Packaging: Cut Tape (CT); Part Status: Active; Tolerance: ±0.1%; Composition: Thin Film; Features: Automotive AEC-Q200; Operating Temperature: -55°C ~ 155°C; Package / Case: 0402 (1005 Metric); Supplier Device Package: 0402; Size / Dimension: 0.039" L x 0.020" W (1.00mm x 0.50mm); Height - Seated (Max): 0.016" (0.40mm); Failure Rate: -; ComponentLink1URL: https://industrial.panasonic.com/cdbs/www-data/pdf/RDM0000/AOA0000C307.pdf; ComponentLink1Description: https://industrial.panasonic.com/cdbs/www-data/pdf/RDM0000/AOA0000C307.pdf; Supplier Part Number 1: P10KDCCT-ND
footprint RESC0402 (Chip Resistor 0402, 2-Leads, Body 1.05x0.54mm, IPC High Density)
pins: 1, 2

## ERA-2AEB104X
designator R?, comment 100K
RES SMD 100K OHM 0.1% 1/16W 0402; Manufacturer: Panasonic Electronic Components; Manufacturer Part Number: ERA-2AEB104X; Power (Watts): 0.063W, 1/16W; Temperature Coefficient: ±25ppm/°C; Supplier 1: Digi-Key; RoHS: RoHS Compliant; Category: Resistors; Stock 1: 1185387; Pricing 1: 1=0.65, 10=0.462, 100=0.1847, 1000=0.09099, 2500=0.0843, 5000=0.07628 (CAD); Packaging: Cut Tape (CT); Part Status: Active; Tolerance: ±0.1%; Composition: Thin Film; Features: Automotive AEC-Q200; Operating Temperature: -55°C ~ 155°C; Package / Case: 0402 (1005 Metric); Supplier Device Package: 0402; Size / Dimension: 0.039" L x 0.020" W (1.00mm x 0.50mm); Height - Seated (Max): 0.016" (0.40mm); Failure Rate: -; ComponentLink1URL: https://industrial.panasonic.com/cdbs/www-data/pdf/RDM0000/AOA0000C307.pdf; ComponentLink1Description: https://industrial.panasonic.com/cdbs/www-data/pdf/RDM0000/AOA0000C307.pdf; Supplier Part Number 1: P100KDCCT-ND
footprint RESC0402 (Chip Resistor 0402, 2-Leads, Body 1.05x0.54mm, IPC High Density)
pins: 1, 2

## ERA-2AEB123X
designator R?, comment 12K
RES SMD 12K OHM 0.1% 1/16W 0402; Manufacturer: Panasonic Electronic Components; Manufacturer Part Number: ERA-2AEB123X; Power (Watts): 0.063W, 1/16W; Temperature Coefficient: ±25ppm/°C; Supplier 1: Digi-Key; RoHS: RoHS Compliant; Category: Resistors; Stock 1: 26295; Pricing 1: 1=0.65, 10=0.462, 100=0.1847, 1000=0.09099, 2500=0.0843, 5000=0.07628 (CAD); Packaging: Cut Tape (CT); Part Status: Active; Tolerance: ±0.1%; Composition: Thin Film; Features: Automotive AEC-Q200; Operating Temperature: -55°C ~ 155°C; Package / Case: 0402 (1005 Metric); Supplier Device Package: 0402; Size / Dimension: 0.039" L x 0.020" W (1.00mm x 0.50mm); Height - Seated (Max): 0.016" (0.40mm); Failure Rate: -; ComponentLink1URL: https://industrial.panasonic.com/cdbs/www-data/pdf/RDM0000/AOA0000C307.pdf; ComponentLink1Description: https://industrial.panasonic.com/cdbs/www-data/pdf/RDM0000/AOA0000C307.pdf; Supplier Part Number 1: P12KDCCT-ND
footprint CAPC0402 (Chip Capacitor 0402, 2-Leads, Body 1.00x0.50mm, IPC High Density)
pins: 1, 2

## ERA-2AEB132X
designator R?, comment 1.3K
RES SMD 1.3K OHM 0.1% 1/16W 0402; Manufacturer: Panasonic Electronic Components; Manufacturer Part Number: ERA-2AEB132X; Power (Watts): 0.063W, 1/16W; Temperature Coefficient: ±25ppm/°C; Supplier 1: Digi-Key; RoHS: RoHS Compliant; Category: Resistors; Stock 1: 709; Pricing 1: 1=0.65, 10=0.462, 100=0.1847, 1000=0.09099, 2500=0.0843, 5000=0.07628 (CAD); Packaging: Cut Tape (CT); Part Status: Active; Tolerance: ±0.1%; Composition: Thin Film; Features: Automotive AEC-Q200; Operating Temperature: -55°C ~ 155°C; Package / Case: 0402 (1005 Metric); Supplier Device Package: 0402; Size / Dimension: 0.039" L x 0.020" W (1.00mm x 0.50mm); Height - Seated (Max): 0.016" (0.40mm); Failure Rate: -; ComponentLink1URL: https://industrial.panasonic.com/cdbs/www-data/pdf/RDM0000/AOA0000C307.pdf; ComponentLink1Description: https://industrial.panasonic.com/cdbs/www-data/pdf/RDM0000/AOA0000C307.pdf; Supplier Part Number 1: P1.3KDCCT-ND
footprint RESC0402 (Chip Resistor 0402, 2-Leads, Body 1.05x0.54mm, IPC High Density)
pins: 1, 2

## ERA-2AEB182X
designator R?, comment 1.8K
RES SMD 1.8K OHM 0.1% 1/16W 0402; Manufacturer: Panasonic Electronic Components; Manufacturer Part Number: ERA-2AEB182X; Power (Watts): 0.063W, 1/16W; Temperature Coefficient: ±25ppm/°C; Supplier 1: Digi-Key; RoHS: RoHS Compliant; Category: Resistors; Stock 1: 45519; Pricing 1: 1=0.65, 10=0.462, 100=0.1847, 1000=0.09099, 2500=0.0843, 5000=0.07628 (CAD); Packaging: Cut Tape (CT); Part Status: Active; Tolerance: ±0.1%; Composition: Thin Film; Features: Automotive AEC-Q200; Operating Temperature: -55°C ~ 155°C; Package / Case: 0402 (1005 Metric); Supplier Device Package: 0402; Size / Dimension: 0.039" L x 0.020" W (1.00mm x 0.50mm); Height - Seated (Max): 0.016" (0.40mm); Failure Rate: -; ComponentLink1URL: https://industrial.panasonic.com/cdbs/www-data/pdf/RDM0000/AOA0000C307.pdf; ComponentLink1Description: https://industrial.panasonic.com/cdbs/www-data/pdf/RDM0000/AOA0000C307.pdf; Supplier Part Number 1: P1.8KDCCT-ND
footprint RESC0402 (Chip Resistor 0402, 2-Leads, Body 1.05x0.54mm, IPC High Density)
pins: 1, 2

## ERA-2AEB201X
designator R?, comment 200R
RES SMD 200 OHM 0.1% 1/16W 0402; Manufacturer Part Number 1: ERA-2AEB201X; Manufacturer Lifecycle 1: Volume Production; ComponentLink1URL: https://industrial.panasonic.com/cdbs/www-data/pdf/RDM0000/AOA0000C307.pdf; ComponentLink1Description: https://industrial.panasonic.com/cdbs/www-data/pdf/RDM0000/AOA0000C307.pdf; Supplier 1: Digi-Key; Supplier Part Number 1: P200DCDKR-ND
footprint RESC0402 (Chip Resistor 0402, 2-Leads, Body 1.05x0.54mm, IPC High Density)
pins: 1, 2

## ERA-2AEB203X
designator R?, comment 20K
RES SMD 20K OHM 0.1% 1/16W 0402; Manufacturer: Panasonic Electronic Components; Manufacturer Part Number: ERA-2AEB203X; Power (Watts): 0.063W, 1/16W; Temperature Coefficient: ±25ppm/°C; Supplier 1: Digi-Key; RoHS: RoHS Compliant; Category: Resistors; Stock 1: 230721; Pricing 1: 1=0.65, 10=0.462, 100=0.1847, 1000=0.09099, 2500=0.0843, 5000=0.07628 (CAD); Packaging: Cut Tape (CT); Part Status: Active; Tolerance: ±0.1%; Composition: Thin Film; Features: Automotive AEC-Q200; Operating Temperature: -55°C ~ 155°C; Package / Case: 0402 (1005 Metric); Supplier Device Package: 0402; Size / Dimension: 0.039" L x 0.020" W (1.00mm x 0.50mm); Height - Seated (Max): 0.016" (0.40mm); Failure Rate: -; ComponentLink1URL: https://industrial.panasonic.com/cdbs/www-data/pdf/RDM0000/AOA0000C307.pdf; ComponentLink1Description: https://industrial.panasonic.com/cdbs/www-data/pdf/RDM0000/AOA0000C307.pdf; Supplier Part Number 1: P20KDCCT-ND
footprint RESC0402 (Chip Resistor 0402, 2-Leads, Body 1.05x0.54mm, IPC High Density)
pins: 1, 2

## ERA-2AEB302X
designator R?, comment 3K
RES SMD 3K OHM 0.1% 1/16W 0402; Manufacturer: Panasonic Electronic Components; Manufacturer Part Number: ERA-2AEB302X; Power (Watts): 0.063W, 1/16W; Temperature Coefficient: ±25ppm/°C; Supplier 1: Digi-Key; RoHS: RoHS Compliant; Category: Resistors; Stock 1: 46200; Pricing 1: 1=0.65, 10=0.462, 100=0.1847, 1000=0.09099, 2500=0.0843, 5000=0.07628 (CAD); Packaging: Cut Tape (CT); Part Status: Active; Tolerance: ±0.1%; Composition: Thin Film; Features: Automotive AEC-Q200; Operating Temperature: -55°C ~ 155°C; Package / Case: 0402 (1005 Metric); Supplier Device Package: 0402; Size / Dimension: 0.039" L x 0.020" W (1.00mm x 0.50mm); Height - Seated (Max): 0.016" (0.40mm); Failure Rate: -; ComponentLink1URL: https://industrial.panasonic.com/cdbs/www-data/pdf/RDM0000/AOA0000C307.pdf; ComponentLink1Description: https://industrial.panasonic.com/cdbs/www-data/pdf/RDM0000/AOA0000C307.pdf; Supplier Part Number 1: P3.0KDCCT-ND
footprint RESC0402 (Chip Resistor 0402, 2-Leads, Body 1.05x0.54mm, IPC High Density)
pins: 1, 2

## ERA-2AEB432X
designator R?, comment 4.3K
RES SMD 4.3K OHM 0.1% 1/16W 0402; Manufacturer: Panasonic Electronic Components; Manufacturer Part Number: ERA-2AEB432X; Power (Watts): 0.063W, 1/16W; Temperature Coefficient: ±25ppm/°C; Supplier 1: Digi-Key; RoHS: RoHS Compliant; Category: Resistors; Stock 1: 35616; Pricing 1: 1=0.65, 10=0.462, 100=0.1847, 1000=0.09099, 2500=0.0843, 5000=0.07628 (CAD); Packaging: Cut Tape (CT); Part Status: Active; Tolerance: ±0.1%; Composition: Thin Film; Features: Automotive AEC-Q200; Operating Temperature: -55°C ~ 155°C; Package / Case: 0402 (1005 Metric); Supplier Device Package: 0402; Size / Dimension: 0.039" L x 0.020" W (1.00mm x 0.50mm); Height - Seated (Max): 0.016" (0.40mm); Failure Rate: -; ComponentLink1URL: https://industrial.panasonic.com/cdbs/www-data/pdf/RDM0000/AOA0000C307.pdf; ComponentLink1Description: https://industrial.panasonic.com/cdbs/www-data/pdf/RDM0000/AOA0000C307.pdf; Supplier Part Number 1: P4.3KDCCT-ND
footprint RESC0402 (Chip Resistor 0402, 2-Leads, Body 1.05x0.54mm, IPC High Density)
pins: 1, 2

## ERA-2AEB513X
designator R?, comment 51K
RES SMD 51K OHM 0.1% 1/16W 0402; Manufacturer: Panasonic Electronic Components; Manufacturer Part Number: ERA-2AEB513X; Power (Watts): 0.063W, 1/16W; Temperature Coefficient: ±25ppm/°C; Supplier 1: Digi-Key; RoHS: RoHS Compliant; Category: Resistors; Stock 1: 64003; Pricing 1: 1=0.65, 10=0.462, 100=0.1847, 1000=0.09099, 2500=0.0843, 5000=0.07628 (CAD); Packaging: Cut Tape (CT); Part Status: Active; Tolerance: ±0.1%; Composition: Thin Film; Features: Automotive AEC-Q200; Operating Temperature: -55°C ~ 155°C; Package / Case: 0402 (1005 Metric); Supplier Device Package: 0402; Size / Dimension: 0.039" L x 0.020" W (1.00mm x 0.50mm); Height - Seated (Max): 0.016" (0.40mm); Failure Rate: -; ComponentLink1URL: https://industrial.panasonic.com/cdbs/www-data/pdf/RDM0000/AOA0000C307.pdf; ComponentLink1Description: https://industrial.panasonic.com/cdbs/www-data/pdf/RDM0000/AOA0000C307.pdf; Supplier Part Number 1: P51KDCCT-ND
footprint RESC0402 (Chip Resistor 0402, 2-Leads, Body 1.05x0.54mm, IPC High Density)
pins: 1, 2

## ERA-2ARB243X
designator R?, comment 24K
RES SMD 24K OHM 0.1% 1/16W 0402; Manufacturer: Panasonic Electronic Components; Manufacturer Part Number: ERA-2ARB243X; Power (Watts): 0.063W, 1/16W; Temperature Coefficient: ±10ppm/°C; Supplier 1: Digi-Key; RoHS: RoHS Compliant; Category: Resistors; Stock 1: 8352; Pricing 1: 1=1.11, 10=0.96, 100=0.6695, 1000=0.40195 (CAD); Packaging: Cut Tape (CT); Part Status: Active; Tolerance: ±0.1%; Composition: Thin Film; Features: Automotive AEC-Q200; Operating Temperature: -55°C ~ 155°C; Package / Case: 0402 (1005 Metric); Supplier Device Package: 0402; Size / Dimension: 0.039" L x 0.020" W (1.00mm x 0.50mm); Height - Seated (Max): 0.016" (0.40mm); Failure Rate: -; ComponentLink1URL: https://industrial.panasonic.com/cdbs/www-data/pdf/RDM0000/AOA0000C307.pdf; ComponentLink1Description: https://industrial.panasonic.com/cdbs/www-data/pdf/RDM0000/AOA0000C307.pdf; Supplier Part Number 1: P24KCPCT-ND
footprint RESC0402 (Chip Resistor 0402, 2-Leads, Body 1.05x0.54mm, IPC High Density)
pins: 1, 2

## ERA-2ARB303X
designator R?, comment 30K
RES SMD 30K OHM 0.1% 1/16W 0402; Manufacturer: Panasonic Electronic Components; Manufacturer Part Number: ERA-2ARB303X; Power (Watts): 0.063W, 1/16W; Temperature Coefficient: ±10ppm/°C; Supplier 1: Digi-Key; RoHS: RoHS Compliant; Category: Resistors; Stock 1: 4985; Pricing 1: 1=1.11, 10=0.96, 100=0.6695, 1000=0.40195 (CAD); Packaging: Cut Tape (CT); Part Status: Active; Tolerance: ±0.1%; Composition: Thin Film; Features: Automotive AEC-Q200; Operating Temperature: -55°C ~ 155°C; Package / Case: 0402 (1005 Metric); Supplier Device Package: 0402; Size / Dimension: 0.039" L x 0.020" W (1.00mm x 0.50mm); Height - Seated (Max): 0.016" (0.40mm); Failure Rate: -; ComponentLink1URL: https://industrial.panasonic.com/cdbs/www-data/pdf/RDM0000/AOA0000C307.pdf; ComponentLink1Description: https://industrial.panasonic.com/cdbs/www-data/pdf/RDM0000/AOA0000C307.pdf; Supplier Part Number 1: P30KCPCT-ND
footprint RESC0402 (Chip Resistor 0402, 2-Leads, Body 1.05x0.54mm, IPC High Density)
pins: 1, 2